# EAGLE library part B9B-PH-* (library jst-ph)
Wire-to-Board 2.0mm pitch top mount connector Source: http://www.jst-mfg.com/product/pdf/jpn/PH.pdf http://www.jst-mfg.com/product/detail.php?series=199
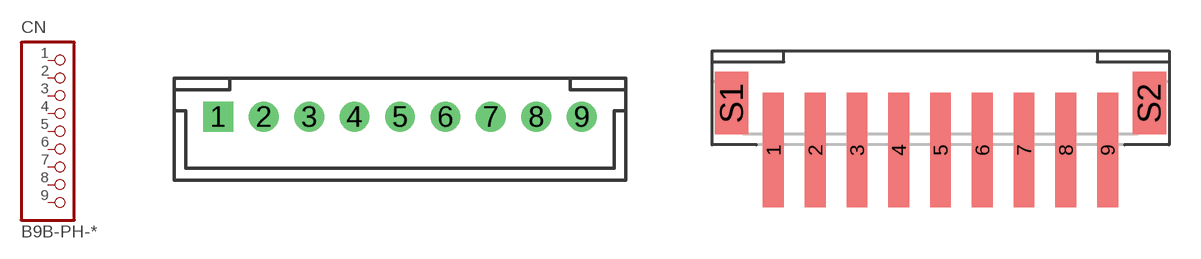
[diagram p3: symbol with the pads of B9B-PH-K-S; footprints B9B-PH-K-S, B9B-PH-SM4-TB]

Designator prefix CN

## B9B-PH-K-S  [B9B-PH-K-S]
1  1  pas
2  2  pas
3  3  pas
4  4  pas
5  5  pas
6  6  pas
7  7  pas
8  8  pas
9  9  pas

## B9B-PH-SM4-TB  [B9B-PH-SM4-TB]
Pads as for B9B-PH-K-S

## Footprint B9B-PH-K-S (pad centres in mm)
drill 0.8 square: 1 -8,0
drill 0.8: 2 -6,0; 3 -4,0; 4 -2,0; 5 0,0; 6 2,0; 7 4,0; 8 6,0; 9 8,0

## Footprint B9B-PH-SM4-TB (pad centres in mm)
smd 1 x 5.5: 1 -8,-3.05; 2 -6,-3.05; 3 -4,-3.05; 4 -2,-3.05; 5 0,-3.05; 6 2,-3.05; 7 4,-3.05; 8 6,-3.05; 9 8,-3.05
smd 1.6 x 3: S1 -10,-0.8; S2 10,-0.8